# Altium schematic symbol library Schlib1.SchLib: 67 symbols
Pins are listed as number, name and electrical type; pins without a type are passive.

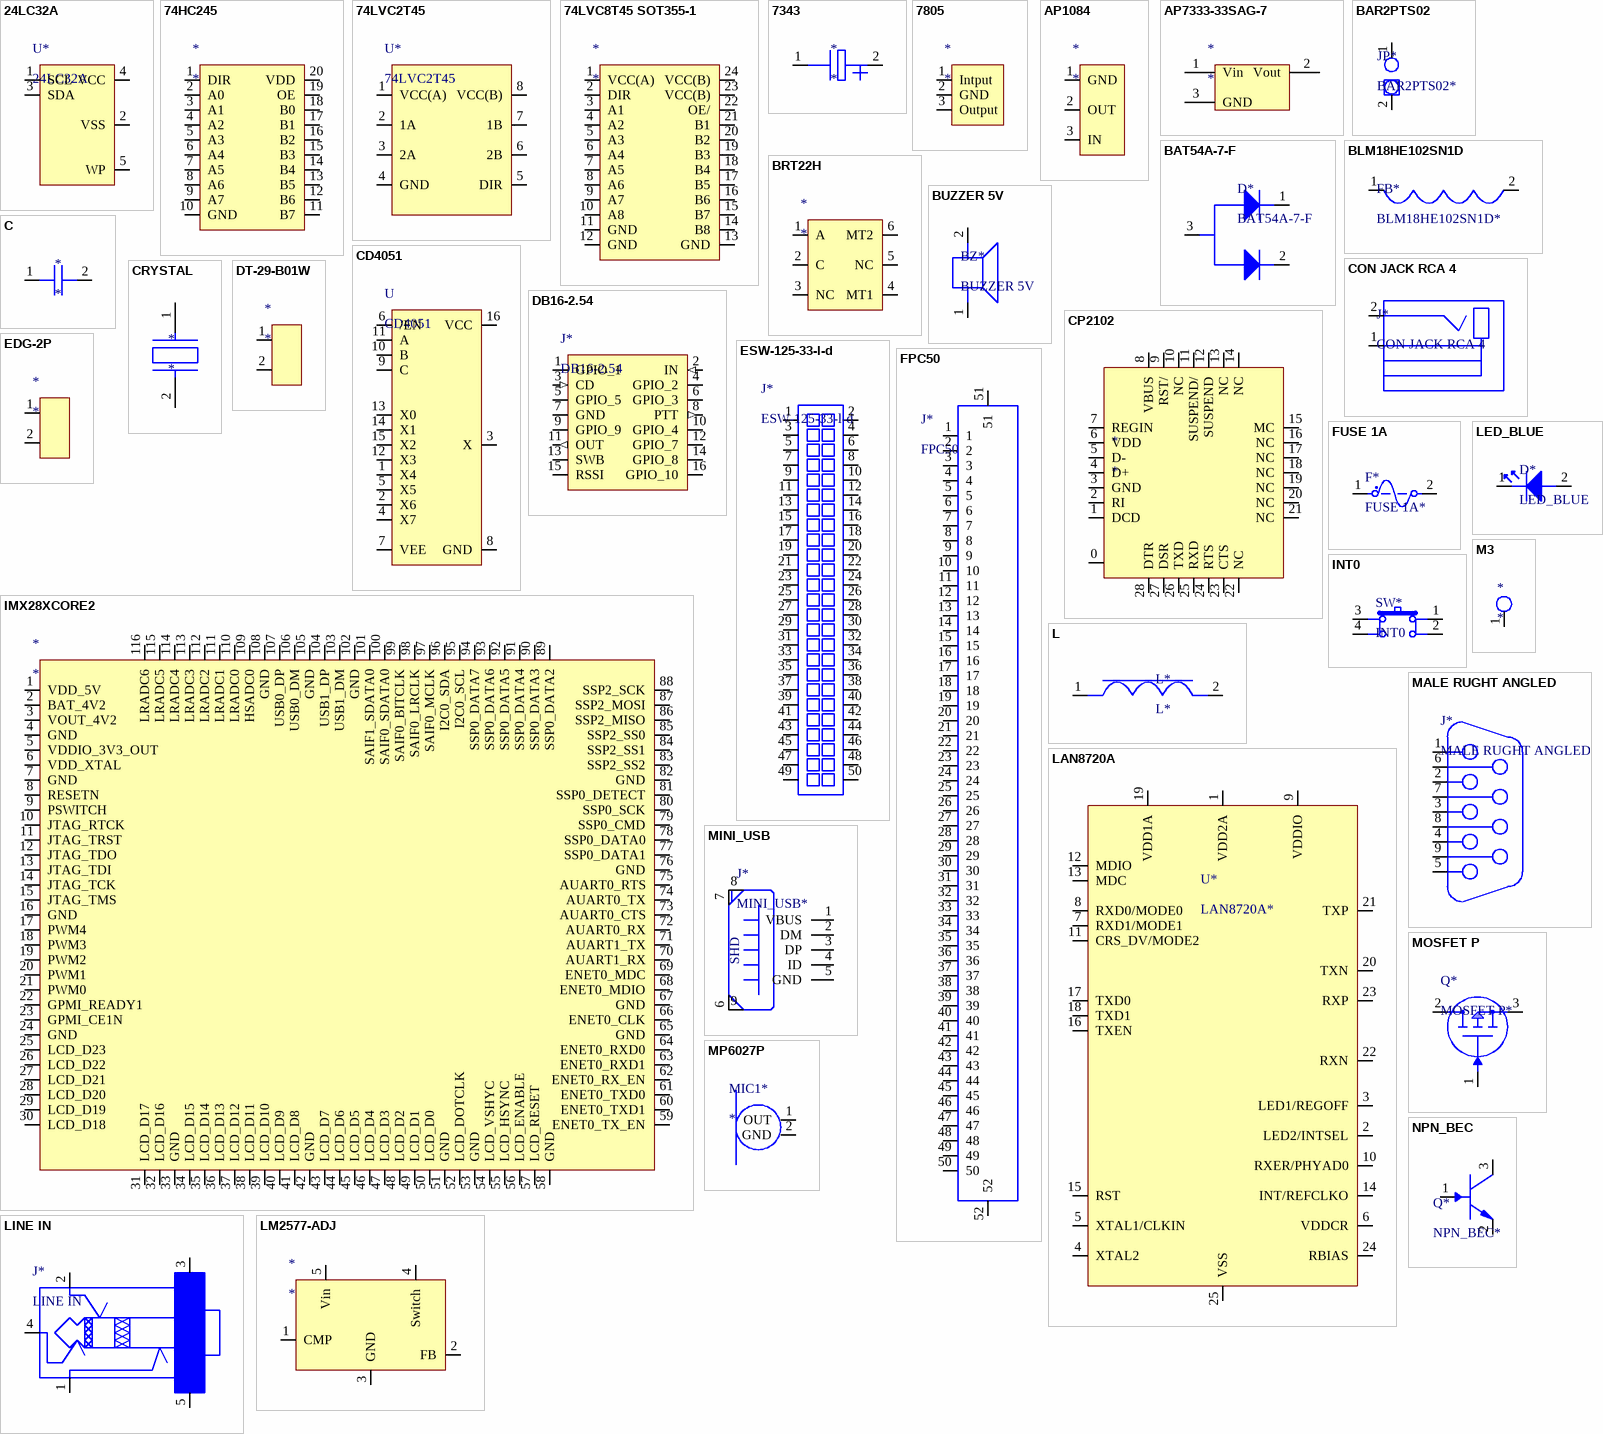
[diagram p0: symbols 24LC32A to NPN_BEC]

## 24LC32A
designator U*
pins: 1 SCL, 2 VSS, 3 SDA, 4 VCC, 5 WP

## 74HC245
designator *
footprint 74HC245
pins: 1 DIR, 2 A0, 3 A1, 4 A2, 5 A3, 6 A4, 7 A5, 8 A6, 9 A7, 10 GND, 11 B7, 12 B6, 13 B5, 14 B4, 15 B3, 16 B2, 17 B1, 18 B0, 19 OE, 20 VDD

## 74LVC2T45
designator U*
pins: 1 VCC(A), 2 1A, 3 2A, 4 GND, 5 DIR, 6 2B, 7 1B, 8 VCC(B)

## 74LVC8T45 SOT355-1
designator *
footprint 74LVC8T245
pins: 1 VCC(A), 2 DIR, 3 A1, 4 A2, 5 A3, 6 A4, 7 A5, 8 A6, 9 A7, 10 A8, 11 GND, 12 GND, 13 GND, 14 B8, 15 B7, 16 B6, 17 B5, 18 B4, 19 B3, 20 B2, 21 B1, 22 OE/, 23 VCC(B), 24 VCC(B)

## 7343
designator *
footprint 7343
pins: 1, 2

## 7805
designator *
pins: 1 Intput, 2 GND, 3 Output

## AP1084
designator *
pins: 1 GND, 2 OUT, 3 IN

## AP7333-33SAG-7
designator *
pins: 1 Vin, 2 Vout, 3 GND

## BAR2PTS02
designator JP*, comment BAR2PTS02*
footprint SIP2
pins: 1, 2

## BAT54A-7-F
designator D*
pins: 1, 2, 3

## BLM18HE102SN1D
designator FB*, comment BLM18HE102SN1D*
pins: 1, 2

## BRT22H
designator *
footprint BRT22H
pins: 1 A, 2 C, 3 NC, 4 MT1, 5 NC, 6 MT2

## BUZZER 5V
designator BZ*
pins: 1, 2

## C
designator *
pins: 1, 2

## CD4051
designator U
pins: 1 X4, 2 X6, 3 X, 4 X7, 5 X5, 6 /EN, 7 VEE, 8 GND, 9 C, 10 B, 11 A, 12 X3, 13 X0, 14 X1, 15 X2, 16 VCC

## CON JACK RCA 4
designator J*
pins: 1, 2

## CP2102
designator *
pins: 0, 1 DCD, 2 RI, 3 GND, 4 D+, 5 D-, 6 VDD, 7 REGIN, 8 VBUS, 9 RST/, 10 NC, 11 SUSPEND/, 12 SUSPEND, 13 NC, 14 NC, 15 MC, 16 NC, 17 NC, 18 NC, 19 NC, 20 NC, 21 NC, 22 NC, 23 CTS, 24 RTS, 25 RXD, 26 TXD, 27 DSR, 28 DTR

## CRYSTAL
designator *
pins: 1, 2

## DB16-2.54
designator J*
pins: 1 GPIO_1, 2 IN (in), 3 CD (in), 4 GPIO_2, 5 GPIO_5, 6 GPIO_3, 7 GND, 8 PTT (out), 9 GPIO_9, 10 GPIO_4, 11 OUT (out), 12 GPIO_7, 13 SWB (power), 14 GPIO_8, 15 RSSI, 16 GPIO_10

## DT-29-B01W
designator *
footprint DT-29-B01W
pins: 1, 2

## EDG-2P
designator *
footprint LZ1R-5.08-02P-140
pins: 1, 2

## ESW-125-33-l-d
designator J*
pins: 1, 2, 3, 4, 5, 6, 7, 8, 9, 10, 11, 12, 13, 14, 15, 16, 17, 18, 19, 20, 21, 22, 23, 24, 25, 26, 27, 28, 29, 30, 31, 32, 33, 34, 35, 36, 37, 38, 39, 40, 41, 42, 43, 44, 45, 46, 47, 48, 49, 50

## FPC50
designator J*
pins: 1, 2, 3, 4, 5, 6, 7, 8, 9, 10, 11, 12, 13, 14, 15, 16, 17, 18, 19, 20, 21, 22, 23, 24, 25, 26, 27, 28, 29, 30, 31, 32, 33, 34, 35, 36, 37, 38, 39, 40, 41, 42, 43, 44, 45, 46, 47, 48, 49, 50, 51, 52

## FUSE 1A
designator F*, comment FUSE 1A*
pins: 1, 2

## IMX28XCORE2
designator *
pins: 1 VDD_5V, 2 BAT_4V2, 3 VOUT_4V2, 4 GND, 5 VDDIO_3V3_OUT, 6 VDD_XTAL, 7 GND, 8 RESETN, 9 PSWITCH, 10 JTAG_RTCK, 11 JTAG_TRST, 12 JTAG_TDO, 13 JTAG_TDI, 14 JTAG_TCK, 15 JTAG_TMS, 16 GND, 17 PWM4, 18 PWM3, 19 PWM2, 20 PWM1, 21 PWM0, 22 GPMI_READY1, 23 GPMI_CE1N, 24 GND, 25 LCD_D23, 26 LCD_D22, 27 LCD_D21, 28 LCD_D20, 29 LCD_D19, 30 LCD_D18, 31 LCD_D17, 32 LCD_D16, 33 GND, 34 LCD_D15, 35 LCD_D14, 36 LCD_D13, 37 LCD_D12, 38 LCD_D11, 39 LCD_D10, 40 LCD_D9, 41 LCD_D8, 42 GND, 43 LCD_D7, 44 LCD_D6, 45 LCD_D5, 46 LCD_D4, 47 LCD_D3, 48 LCD_D2, 49 LCD_D1, 50 LCD_D0, 51 GND, 52 LCD_DOTCLK, 53 GND, 54 LCD_VSHYC, 55 LCD_HSYNC, 56 LCD_ENABLE, 57 LCD_RESET, 58 GND, 59 ENET0_TX_EN, 60 ENET0_TXD1, 61 ENET0_TXD0, 62 ENET0_RX_EN, 63 ENET0_RXD1, 64 ENET0_RXD0, 65 GND, 66 ENET0_CLK, 67 GND, 68 ENET0_MDIO, 69 ENET0_MDC, 70 AUART1_RX, 71 AUART1_TX, 72 AUART0_RX, 73 AUART0_CTS, 74 AUART0_TX, 75 AUART0_RTS, 76 GND, 77 SSP0_DATA1, 78 SSP0_DATA0, 79 SSP0_CMD, 80 SSP0_SCK, 81 SSP0_DETECT, 82 GND, 83 SSP2_SS2, 84 SSP2_SS1, 85 SSP2_SS0, 86 SSP2_MISO, 87 SSP2_MOSI, 88 SSP2_SCK, 89 SSP0_DATA2, 90 SSP0_DATA3, 91 SSP0_DATA4, 92 SSP0_DATA5, 93 SSP0_DATA6, 94 SSP0_DATA7, 95 I2C0_SCL, 96 I2C0_SDA, 97 SAIF0_MCLK, 98 SAIF0_LRCLK, 99 SAIF0_BITCLK, 100 SAIF0_SDATA0, 101 SAIF1_SDATA0, 102 GND, 103 USB1_DM, 104 USB1_DP, 105 GND, 106 USB0_DM, 107 USB0_DP, 108 GND, 109 HSADC0, 110 LRADC0, 111 LRADC1, 112 LRADC2, 113 LRADC3, 114 LRADC4, 115 LRADC5, 116 LRADC6

## INT0
designator SW*
pins: 1, 2, 3, 4

## L
designator L*, comment L*
pins: 1, 2

## LAN8720A
designator U*, comment LAN8720A*
footprint LAN8720A
pins: 1 VDD2A, 2 LED2/INTSEL, 3 LED1/REGOFF, 4 XTAL2, 5 XTAL1/CLKIN, 6 VDDCR, 7 RXD1/MODE1, 8 RXD0/MODE0, 9 VDDIO, 10 RXER/PHYAD0, 11 CRS_DV/MODE2, 12 MDIO, 13 MDC, 14 INT/REFCLKO, 15 RST, 16 TXEN, 17 TXD0, 18 TXD1, 19 VDD1A, 20 TXN, 21 TXP, 22 RXN, 23 RXP, 24 RBIAS, 25 VSS

## LED_BLUE
designator D*
pins: 1, 2

## LINE IN
designator J*
pins: 1, 2, 3, 4, 5

## LM2577-ADJ
designator *
pins: 1 CMP, 2 FB, 3 GND, 4 Switch, 5 Vin

## M3
designator *
footprint M3
pins: 1

## MALE RUGHT ANGLED
designator J*
pins: 1, 2, 3, 4, 5, 6, 7, 8, 9

## MINI_USB
designator J*, comment MINI_USB*
pins: 1 VBUS, 2 DM, 3 DP, 4 ID, 5 GND, 6, 7, 8, 9
text: SHD

## MOSFET P
designator Q*, comment MOSFET P*
pins: 1, 2, 3

## MP6027P
designator MIC1*
pins: 1 OUT, 2 GND

## NPN_BEC
designator Q*, comment NPN_BEC*
pins: 1, 2, 3

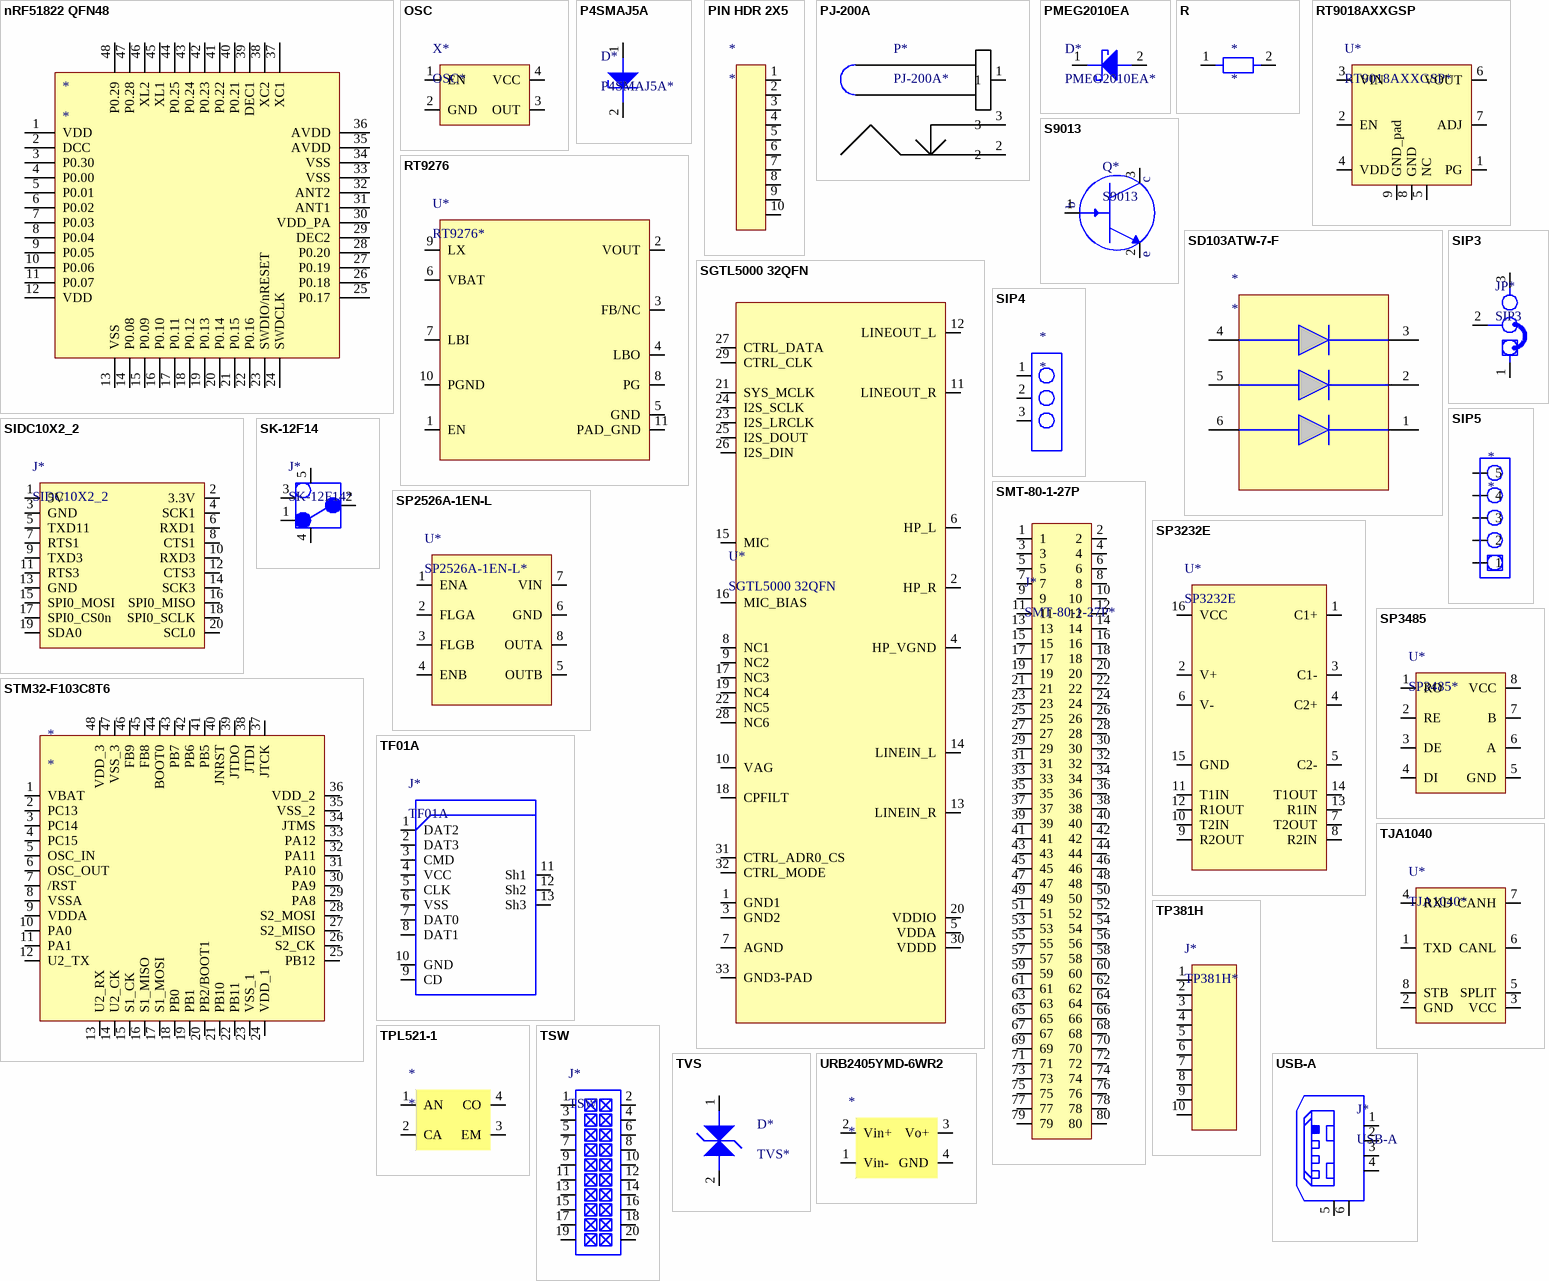
[diagram p1: symbols nRF51822 QFN48 to USB-A]

## nRF51822 QFN48
designator *
pins: 1 VDD, 2 DCC, 3 P0.30, 4 P0.00, 5 P0.01, 6 P0.02, 7 P0.03, 8 P0.04, 9 P0.05, 10 P0.06, 11 P0.07, 12 VDD, 13 VSS, 14 P0.08, 15 P0.09, 16 P0.10, 17 P0.11, 18 P0.12, 19 P0.13, 20 P0.14, 21 P0.15, 22 P0.16, 23 SWDIO/nRESET, 24 SWDCLK, 25 P0.17, 26 P0.18, 27 P0.19, 28 P0.20, 29 DEC2, 30 VDD_PA, 31 ANT1, 32 ANT2, 33 VSS, 34 VSS, 35 AVDD, 36 AVDD, 37 XC1, 38 XC2, 39 DEC1, 40 P0.21, 41 P0.22, 42 P0.23, 43 P0.24, 44 P0.25, 45 XL1, 46 XL2, 47 P0.28, 48 P0.29

## OSC
designator X*, comment OSC*
pins: 1 EN, 2 GND, 3 OUT, 4 VCC

## P4SMAJ5A
designator D*, comment P4SMAJ5A*
pins: 1, 2

## PIN HDR 2X5
designator *
pins: 1, 2, 3, 4, 5, 6, 7, 8, 9, 10

## PJ-200A
designator P*, comment PJ-200A*
pins: 1, 2, 3

## PMEG2010EA
designator D*, comment PMEG2010EA*
pins: 1, 2

## R
designator *
pins: 1, 2

## RT9018AXXGSP
designator U*, comment RT9018AXXGSP*
pins: 1 PG, 2 EN, 3 VIN, 4 VDD, 5 NC, 6 VOUT, 7 ADJ, 8 GND, 9 GND_pad

## RT9276
designator U*, comment RT9276*
pins: 1 EN, 2 VOUT, 3 FB/NC, 4 LBO, 5 GND, 6 VBAT, 7 LBI, 8 PG, 9 LX, 10 PGND, 11 PAD_GND

## S9013
designator Q*
pins: 1, 2, 3
text: c; b; e

## SD103ATW-7-F
designator *
pins: 1, 2, 3, 4, 5, 6

## SGTL5000 32QFN
designator U*
pins: 1 GND1, 2 HP_R, 3 GND2, 4 HP_VGND, 5 VDDA, 6 HP_L, 7 AGND, 8 NC1, 9 NC2, 10 VAG, 11 LINEOUT_R, 12 LINEOUT_L, 13 LINEIN_R, 14 LINEIN_L, 15 MIC, 16 MIC_BIAS, 17 NC3, 18 CPFILT, 19 NC4, 20 VDDIO, 21 SYS_MCLK, 22 NC5, 23 I2S_LRCLK, 24 I2S_SCLK, 25 I2S_DOUT, 26 I2S_DIN, 27 CTRL_DATA, 28 NC6, 29 CTRL_CLK, 30 VDDD, 31 CTRL_ADR0_CS, 32 CTRL_MODE, 33 GND3-PAD

## SIDC10X2_2
designator J*
pins: 1 5V, 2 3.3V, 3 GND, 4 SCK1, 5 TXD11, 6 RXD1, 7 RTS1, 8 CTS1, 9 TXD3, 10 RXD3, 11 RTS3, 12 CTS3, 13 GND, 14 SCK3, 15 SPI0_MOSI, 16 SPI0_MISO, 17 SPI0_CS0n, 18 SPI0_SCLK, 19 SDA0, 20 SCL0

## SIP3
designator JP*
footprint SIP3
pins: 1, 2, 3

## SIP4
designator *
pins: 1, 2, 3

## SIP5
designator *
pins: ?1 1, ?2 2, ?3 3, ?4 4, ?5 5

## SK-12F14
designator J*, comment SK-12F14*
pins: 1, 2, 3, 4, 5

## SMT-80-1-27P
designator J*, comment SMT-80-1-27P*
footprint SMT-80-1-27p
footprint SMT-80-1-27p
pins: 1, 2, 3, 4, 5, 6, 7, 8, 9, 10, 11, 12, 13, 14, 15, 16, 17, 18, 19, 20, 21, 22, 23, 24, 25, 26, 27, 28, 29, 30, 31, 32, 33, 34, 35, 36, 37, 38, 39, 40, 41, 42, 43, 44, 45, 46, 47, 48, 49, 50, 51, 52, 53, 54, 55, 56, 57, 58, 59, 60, 61, 62, 63, 64, 65, 66, 67, 68, 69, 70, 71, 72, 73, 74, 75, 76, 77, 78, 79, 80

## SP2526A-1EN-L
designator U*, comment SP2526A-1EN-L*
pins: 1 ENA, 2 FLGA, 3 FLGB, 4 ENB, 5 OUTB, 6 GND, 7 VIN, 8 OUTA

## SP3232E
designator U*
pins: 1 C1+, 2 V+, 3 C1-, 4 C2+, 5 C2-, 6 V-, 7 T2OUT, 8 R2IN, 9 R2OUT, 10 T2IN, 11 T1IN, 12 R1OUT, 13 R1IN, 14 T1OUT, 15 GND, 16 VCC

## SP3485
designator U*, comment SP3485*
pins: 1 RO, 2 RE, 3 DE, 4 DI, 5 GND, 6 A, 7 B, 8 VCC

## STM32-F103C8T6
designator *
pins: 1 VBAT, 2 PC13, 3 PC14, 4 PC15, 5 OSC_IN, 6 OSC_OUT, 7 /RST, 8 VSSA, 9 VDDA, 10 PA0, 11 PA1, 12 U2_TX, 13 U2_RX, 14 U2_CK, 15 S1_CK, 16 S1_MISO, 17 S1_MOSI, 18 PB0, 19 PB1, 20 PB2/BOOT1, 21 PB10, 22 PB11, 23 VSS_1, 24 VDD_1, 25 PB12, 26 S2_CK, 27 S2_MISO, 28 S2_MOSI, 29 PA8, 30 PA9, 31 PA10, 32 PA11, 33 PA12, 34 JTMS, 35 VSS_2, 36 VDD_2, 37 JTCK, 38 JTDI, 39 JTDO, 40 JNRST, 41 PB5, 42 PB6, 43 PB7, 44 BOOT0, 45 FB8, 46 FB9, 47 VSS_3, 48 VDD_3

## TF01A
designator J*
pins: 1 DAT2, 2 DAT3, 3 CMD, 4 VCC, 5 CLK, 6 VSS, 7 DAT0, 8 DAT1, 9 CD, 10 GND, 11 Sh1, 12 Sh2, 13 Sh3

## TJA1040
designator U*, comment TJA1040*
pins: 1 TXD, 2 GND, 3 VCC, 4 RXD, 5 SPLIT, 6 CANL, 7 CANH, 8 STB

## TP381H
designator J*, comment TP381H*
pins: 1, 2, 3, 4, 5, 6, 7, 8, 9, 10

## TPL521-1
designator *
footprint TPL521-1
pins: 1 AN, 2 CA, 3 EM, 4 CO

## TSW
designator J*
footprint DB10X2-2.0
pins: 1, 2, 3, 4, 5, 6, 7, 8, 9, 10, 11, 12, 13, 14, 15, 16, 17, 18, 19, 20

## TVS
designator D*, comment TVS*
footprint C0402
pins: 1, 2

## URB2405YMD-6WR2
designator *
footprint URB2405YMD-6WR2
pins: 1 Vin-, 2 Vin+, 3 Vo+, 4 GND

## USB-A
designator J*
footprint USB-A
pins: 1, 2, 3, 4, 5, 6